# Altium integrated library Res-SMD_V2.IntLib: 2369 symbols (part 7 of 18)
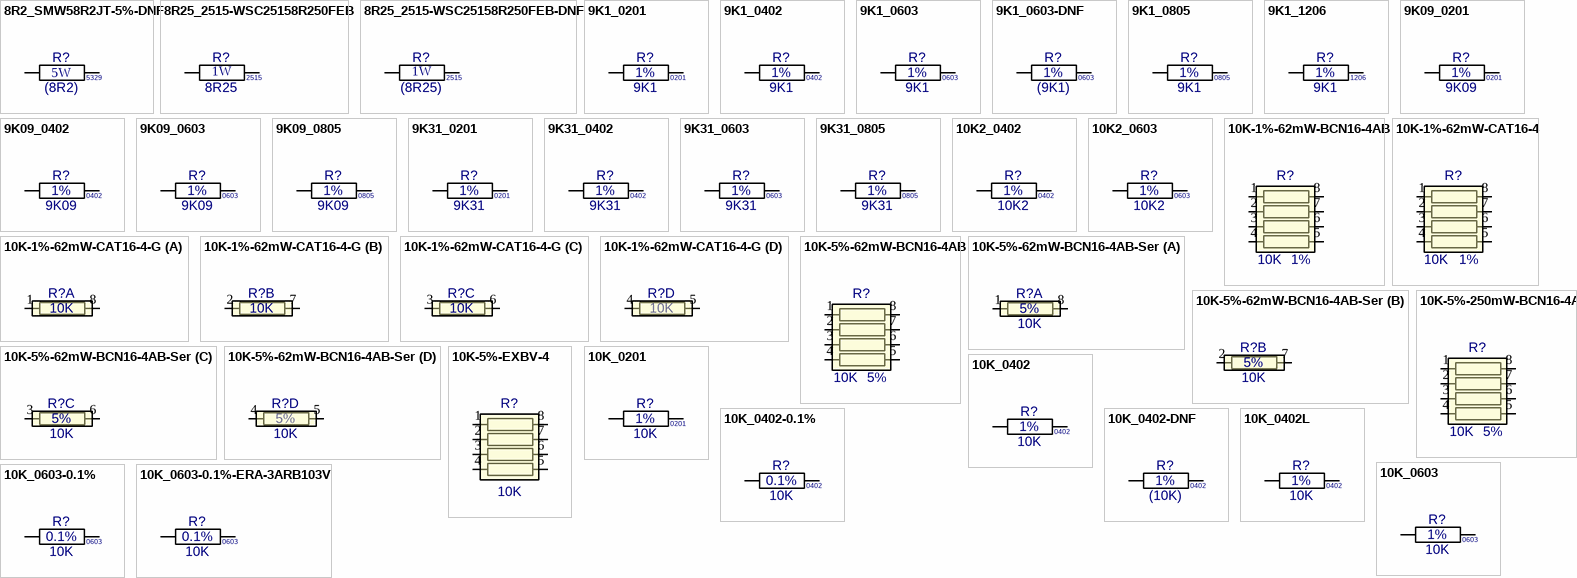
[diagram p65: symbols 8R2_SMW58R2JT-5%-DNF to 10K_0603-0.1%-ERA-3ARB103V]

## 8R25_2515-WSC25158R250FEB
designator R?, comment value 8R25  Watt: 1W  Text1: 2515  (hidden comment: WSC25158R250FEB)
Resistor Wirewound Precision Power; Manufacturer: Vishay; Tol: 1%; Part Number: WSC25158R250FEB; Package: WSC2515; EDM-PN: *; Text2: *; Reutech PN: *; SAAB PN: *; DCE Part No: *
footprint WSC2515 (Chip Resistor 2515 6.3x3.8mm)
pins: 1, 2

## 8R25_2515-WSC25158R250FEB-DNF
designator R?, comment value (8R25)  Watt: 1W  Text1: 2515  (hidden comment: WSC25158R250FEB)
Resistor Wirewound Precision Power - Do not Fit; Manufacturer: Vishay; Part Number: DNF - WSC25158R250FEB; Tol: 1%; Package: WSC2515; EDM-PN: *; Text2: *; Reutech PN: *; SAAB PN: *; DCE Part No: *
footprint WSC2515 (Chip Resistor 2515 6.3x3.8mm)
pins: 1, 2

## 9K1_0201
designator R?, comment value 9K1  Tol: 1%  Text1: 0201  (hidden comment: 9K1_R0201_1%)
Resistor Chip SMD; Manufacturer: Various; Part Number: 9K1 0201 1%; Watt: 31mW; Package: RESC0201X33N; EDM-PN: *; Text2: *; Reutech PN: *; SAAB PN: *; DCE Part No: *
footprint RESC0201X33N (Chip Resistor, 0201, 2-Leads, Body 0.6x0.3mm, IPC Medium Density)
pins: 1, 2

## 9K1_0402
designator R?, comment value 9K1  Tol: 1%  Text1: 0402  (hidden comment: 9K1_R0402_1%)
Resistor Chip SMD; Manufacturer: Various; Part Number: 9K1 0402 1%; Watt: 63mW; Package: RESC0402X40N; EDM-PN: *; Text2: *; Reutech PN: *; SAAB PN: *; DCE Part No: *
footprint RESC0402X40N (Chip Resistor, 0402, 2-Leads, Body 1.1x0.5mm, IPC Medium Density)
pins: 1, 2

## 9K1_0603
designator R?, comment value 9K1  Tol: 1%  Text1: 0603  (hidden comment: 9K1_R0603_1%)
Resistor Chip SMD; Manufacturer: Various; Part Number: 9K1 0603 1%; Watt: 100mW; EDM-PN: RES706; Package: RESC0603X60N; Text2: *; Reutech PN: 5905-93-9101; SAAB PN: *; DCE Part No: *
footprint RESC0603X60N (Chip Resistor, 0603, 2-Leads, Body 1.6x0.8mm, IPC Medium Density)
pins: 1, 2

## 9K1_0603-DNF
designator R?, comment value (9K1)  Tol: 1%  Text1: 0603  (hidden comment: 9K1_R0603_1%-DNF)
Resistor Chip SMD - Do not Fit; Manufacturer: Various; Part Number: DNF - 9K1 0603 1%; Watt: 100mW; Package: RESC0603X60N; EDM-PN: *; Text2: *; Reutech PN: *; SAAB PN: *; DCE Part No: *
footprint RESC0603X60N (Chip Resistor, 0603, 2-Leads, Body 1.6x0.8mm, IPC Medium Density)
pins: 1, 2

## 9K1_0805
designator R?, comment value 9K1  Tol: 1%  Text1: 0805  (hidden comment: 9K1_R0805_1%)
Resistor Chip SMD; Manufacturer: Various; Part Number: 9K1 0805 1%; Watt: 125mW; Package: RESC0805X65N; EDM-PN: *; Text2: *; Reutech PN: *; SAAB PN: *; DCE Part No: *
footprint RESC0805X65N (Chip Resistor, 0805, 2-Leads, Body 2.0x1.3mm, IPC Medium Density)
pins: 1, 2

## 9K1_1206
designator R?, comment value 9K1  Tol: 1%  Text1: 1206  (hidden comment: 9K!_R1206_1%)
Resistor Chip SMD; Manufacturer: Various; Part Number: 9K1 1206 1%; Watt: 250mW; Package: RESC1206X71N; EDM-PN: *; Text2: *; Reutech PN: 5905-97-9101; SAAB PN: *; DCE Part No: *
footprint RESC1206X71N (Chip Resistor, 1206, 2-Leads, Body 3.2x1.6mm, IPC Medium Density)
pins: 1, 2

## 9K09_0201
designator R?, comment value 9K09  Tol: 1%  Text1: 0201  (hidden comment: 9K09_R0201_1%)
Resistor Chip SMD; Manufacturer: Various; Part Number: 9K09 0201 1%; Watt: 31mW; Package: RESC0201X33N; EDM-PN: *; Text2: *; Reutech PN: *; SAAB PN: *; DCE Part No: *
footprint RESC0201X33N (Chip Resistor, 0201, 2-Leads, Body 0.6x0.3mm, IPC Medium Density)
pins: 1, 2

## 9K09_0402
designator R?, comment value 9K09  Tol: 1%  Text1: 0402  (hidden comment: 9K09_R0402_1%)
Resistor Chip SMD; Manufacturer: Various; Part Number: 9K09 0402 1%; Watt: 63mW; Package: RESC0402X40N; EDM-PN: *; Text2: *; Reutech PN: *; SAAB PN: *; DCE Part No: *
footprint RESC0402X40N (Chip Resistor, 0402, 2-Leads, Body 1.1x0.5mm, IPC Medium Density)
pins: 1, 2

## 9K09_0603
designator R?, comment value 9K09  Tol: 1%  Text1: 0603  (hidden comment: 9K09_R0603_1%)
Resistor Chip SMD; Manufacturer: Various; Part Number: 9K09 0603 1%; Watt: 100mW; Package: RESC0603X60N; EDM-PN: *; Text2: *; Reutech PN: *; SAAB PN: *; DCE Part No: *
footprint RESC0603X60N (Chip Resistor, 0603, 2-Leads, Body 1.6x0.8mm, IPC Medium Density)
pins: 1, 2

## 9K09_0805
designator R?, comment value 9K09  Tol: 1%  Text1: 0805  (hidden comment: 9K09_R0805_1%)
Resistor Chip SMD; Manufacturer: Various; Part Number: 9K09 0805 1%; Watt: 125mW; Package: RESC0805X65N; EDM-PN: *; Text2: *; Reutech PN: *; SAAB PN: *; DCE Part No: *
footprint RESC0805X65N (Chip Resistor, 0805, 2-Leads, Body 2.0x1.3mm, IPC Medium Density)
pins: 1, 2

## 9K31_0201
designator R?, comment value 9K31  Tol: 1%  Text1: 0201  (hidden comment: 9K31_R0201_1%)
Resistor Chip SMD; Manufacturer: Various; Part Number: 9K31 0201 1%; Watt: 31mW; Package: RESC0201X33N; EDM-PN: *; Text2: *; Reutech PN: *; SAAB PN: *; DCE Part No: *
footprint RESC0201X33N (Chip Resistor, 0201, 2-Leads, Body 0.6x0.3mm, IPC Medium Density)
pins: 1, 2

## 9K31_0402
designator R?, comment value 9K31  Tol: 1%  Text1: 0402  (hidden comment: 9K31_R0402_1%)
Resistor Chip SMD; Manufacturer: Various; Part Number: 9K31 0402 1%; Watt: 63mW; Package: RESC0402X40N; EDM-PN: *; Text2: *; Reutech PN: *; SAAB PN: *; DCE Part No: *
footprint RESC0402X40N (Chip Resistor, 0402, 2-Leads, Body 1.1x0.5mm, IPC Medium Density)
pins: 1, 2

## 9K31_0603
designator R?, comment value 9K31  Tol: 1%  Text1: 0603  (hidden comment: 9K31_R0603_1%)
Resistor Chip SMD; Manufacturer: Various; Part Number: 9K31 0603 1%; Watt: 100mW; Package: RESC0603X60N; EDM-PN: *; Text2: *; Reutech PN: *; SAAB PN: *; DCE Part No: *
footprint RESC0603X60N (Chip Resistor, 0603, 2-Leads, Body 1.6x0.8mm, IPC Medium Density)
pins: 1, 2

## 9K31_0805
designator R?, comment value 9K31  Tol: 1%  Text1: 0805  (hidden comment: 9K31_R0805_1%)
Resistor Chip SMD; Manufacturer: Various; Part Number: 9K31 0805 1%; Watt: 125mW; Package: RESC0805X65N; EDM-PN: *; Text2: *; Reutech PN: *; SAAB PN: *; DCE Part No: *
footprint RESC0805X65N (Chip Resistor, 0805, 2-Leads, Body 2.0x1.3mm, IPC Medium Density)
pins: 1, 2

## 10K2_0402
designator R?, comment value 10K2  Tol: 1%  Text1: 0402  (hidden comment: 10K2_R0402_1%)
Resistor Chip SMD; Manufacturer: Various; Part Number: 10K2 0402 1%; Watt: 63mW; Package: RESC0402X40N; EDM-PN: *; Text2: *; Reutech PN: *; SAAB PN: *; DCE Part No: *
footprint RESC0402X40N (Chip Resistor, 0402, 2-Leads, Body 1.1x0.5mm, IPC Medium Density)
pins: 1, 2

## 10K2_0603
designator R?, comment value 10K2  Tol: 1%  Text1: 0603  (hidden comment: 10K2_R0603_1%)
Resistor Chip SMD; Manufacturer: Various; Part Number: 10K2 0603 1%; Watt: 100mW; EDM-PN: RES1017; Package: RESC0603X60N; Text2: *; Reutech PN: *; SAAB PN: *; DCE Part No: *
footprint RESC0603X60N (Chip Resistor, 0603, 2-Leads, Body 1.6x0.8mm, IPC Medium Density)
pins: 1, 2

## 10K-1%-62mW-BCN16-4AB
designator R?, comment value 10K  Tol: 1%  (hidden comment: 10K-1%-62mW-BCN16-4AB-H)
Resistor Chip Array; Manufacturer: Bi Tech; Part Number: BCN164ABI-103F; Watt: 62mW; Package: BCN16-4AB; EDM-PN: *; Text2: *; Text1: *; Reutech PN: *; SAAB PN: *; DCE Part No: *
footprint BCN16-4AB (BCN 16 4 AB 1.6x3.2mm)
pins: 1, 2, 3, 4, 5, 6, 7, 8

## 10K-1%-62mW-CAT16-4
designator R?  value 10K  Tol: 1%  (hidden comment: 10K-1%-62mW-CAT16-4)
Resistor Chip Array; Manufacturer: Bourns; Part Number: CAT16-103J4LF; EDM-PN: RES1475; Watt: 62mW; Package: CAT16-4; Text2: *; Text1: *; Reutech PN: *; SAAB PN: *; DCE Part No: *
footprint CAT16-4 (Res Network 1.6x3.2mm)
pins: 1, 2, 3, 4, 5, 6, 7, 8

## 10K-1%-62mW-CAT16-4-G
designator R?, comment value 10K  (hidden comment: 10K-1%-62mW-CAT16-4)
Resistor Chip Array; Manufacturer: Bourns; Part Number: CAT16-103J4LF; EDM-PN: RES1475; Watt: 62mW; Tol: 1%; Package: CAT16-4; Text2: *; Text1: *; Reutech PN: *; SAAB PN: *; DCE Part No: *
footprint CAT16-4 (Res Network 1.6x3.2mm)
part A pins: 1, 8
part B pins: 2, 7
part C pins: 3, 6
part D pins: 4, 5

## 10K-5%-62mW-BCN16-4AB
designator R?, comment value 10K  Tol: 5%  (hidden comment: 10K-5%-62mW-BCN16-4AB-H)
Resistor Chip Array; Manufacturer: Bi Tech; Part Number: BCN164ABI-103J; Watt: 62mW; Package: BCN16-4AB; EDM-PN: *; Text2: *; Text1: *; Reutech PN: *; SAAB PN: *; DCE Part No: *
footprint BCN16-4AB (BCN 16 4 AB 1.6x3.2mm)
pins: 1, 2, 3, 4, 5, 6, 7, 8

## 10K-5%-62mW-BCN16-4AB-Ser
designator R?, comment value 10K  Tol: 5%  (hidden comment: 10K-5%-62mW-BCN16-4AB-H)
Resistor Chip Array; Manufacturer: Bi Tech; Part Number: BCN164ABI-103J; Watt: 62mW; Package: BCN16-4AB; EDM-PN: *; Text2: *; Text1: *; Reutech PN: *; SAAB PN: *; DCE Part No: *
footprint BCN16-4AB (BCN 16 4 AB 1.6x3.2mm)
part A pins: 1, 8
part B pins: 2, 7
part C pins: 3, 6
part D pins: 4, 5

## 10K-5%-250mW-BCN16-4A
designator R?, comment value 10K  Tol: 5%  (hidden comment: BCN164A103J7)
Resistor Chip Array; Manufacturer: Bi Tech; Watt: 250mW; Part Number: BCN164A103J7; Package: BCN16-4A; EDM-PN: *; Text2: *; Text1: *; Reutech PN: *; SAAB PN: *; DCE Part No: *
footprint BCN16-4A (Res Network 1.6x3.2mm)
pins: 1, 2, 3, 4, 5, 6, 7, 8

## 10K-5%-EXBV-4
designator R?  value 10K  (hidden comment: 10K-5%-EXBV-4)
Resistor Chip Array; Manufacturer: Panasonic; Part Number: EXBV8V103J; Tol: 5%; Package: EXBV8V; EDM-PN: *; Text2: *; Text1: *; Watt: *; Reutech PN: *; SAAB PN: *; DCE Part No: *
footprint EXBV8V (Res Network 1.6x3.2mm)
pins: 1, 2, 3, 4, 5, 6, 7, 8

## 10K_0201
designator R?, comment value 10K  Tol: 1%  Text1: 0201  (hidden comment: 10K_R0201_1%)
Resistor Chip SMD; Manufacturer: Various; Part Number: 10K 0201 1%; Watt: 31mW; Package: RESC0201X33N; EDM-PN: *; Text2: *; Reutech PN: *; SAAB PN: *; DCE Part No: *
footprint RESC0201X33N (Chip Resistor, 0201, 2-Leads, Body 0.6x0.3mm, IPC Medium Density)
pins: 1, 2

## 10K_0402
designator R?, comment value 10K  Tol: 1%  Text1: 0402  (hidden comment: 10K_R0402_1%)
Resistor Chip SMD; Manufacturer: Various; Part Number: 10K 0402 1%; DCE Part No: 7144; Watt: 63mW; EDM-PN: RES857; SAAB PN: 1ACF00357AEA; Package: RESC0402X40N; Text2: *; Reutech PN: 5905-92-1002
footprint RESC0402X40N (Chip Resistor, 0402, 2-Leads, Body 1.1x0.5mm, IPC Medium Density)
pins: 1, 2

## 10K_0402-0.1%
designator R?, comment value 10K  Tol: 0.1%  Text1: 0402  (hidden comment: 10K_R0402_0.1%)
Resistor Chip SMD; Manufacturer: Various; Part Number: 10K 0402 0.1%; Watt: 63mW; Package: RESC0402X40N; EDM-PN: *; Text2: *; Reutech PN: *; SAAB PN: *; DCE Part No: *
footprint RESC0402X40N (Chip Resistor, 0402, 2-Leads, Body 1.1x0.5mm, IPC Medium Density)
pins: 1, 2

## 10K_0402-DNF
designator R?, comment value (10K)  Tol: 1%  Text1: 0402  (hidden comment: 10K_R0402_1%-DNF)
Resistor Chip SMD - Do not Fit; Manufacturer: Various; Part Number: DNF - 10K 0402 1%; Watt: 63mW; Package: RESC0402X40N; EDM-PN: *; Text2: *; Reutech PN: *; SAAB PN: *; DCE Part No: *
footprint RESC0402X40N (Chip Resistor, 0402, 2-Leads, Body 1.1x0.5mm, IPC Medium Density)
pins: 1, 2

## 10K_0402L
designator R?, comment value 10K  Tol: 1%  Text1: 0402  (hidden comment: 10K_R0402_1%)
Resistor Chip SMD; Manufacturer: Various; Part Number: 10K 0402 1%; DCE Part No: 7144; Watt: 63mW; EDM-PN: RES857; SAAB PN: 1ACF00357AEA; Package: RESC0402X40L; Text2: *; Reutech PN: 5905-92-1002
footprint RESC0402X40L (Chip Resistor, 0402, 2-Leads, Body 1.1x0.5mm, IPC High Density)
pins: 1, 2

## 10K_0603
designator R?, comment value 10K  Tol: 1%  Text1: 0603  (hidden comment: 10K_R0603_1%)
Resistor Chip SMD; Manufacturer: Various; Part Number: 10K 0603 1%; Watt: 100mW; EDM-PN: RES120; Package: RESC0603X60N; Text2: *; Reutech PN: 5905-93-1002; SAAB PN: *; DCE Part No: *
footprint RESC0603X60N (Chip Resistor, 0603, 2-Leads, Body 1.6x0.8mm, IPC Medium Density)
pins: 1, 2

## 10K_0603-0.1%
designator R?, comment value 10K  Tol: 0.1%  Text1: 0603  (hidden comment: 10K_R0603_0.1%)
Resistor Chip SMD; Manufacturer: Various; Part Number: 10K 0603 0.1%; Watt: 100mW; Package: RESC0603X60N; EDM-PN: *; Text2: *; Reutech PN: *; SAAB PN: *; DCE Part No: *
footprint RESC0603X60N (Chip Resistor, 0603, 2-Leads, Body 1.6x0.8mm, IPC Medium Density)
pins: 1, 2

## 10K_0603-0.1%-ERA-3ARB103V
designator R?, comment value 10K  Tol: 0.1%  Text1: 0603  (hidden comment: ERA-3ARB103V)
Resistor Chip SMD; Manufacturer: Panasonic; Watt: 100mW; Part Number: ERA-3ARB103V; Package: RESC0603X60N; EDM-PN: *; Text2: *; Reutech PN: *; SAAB PN: *; DCE Part No: *
footprint RESC0603X60N (Chip Resistor, 0603, 2-Leads, Body 1.6x0.8mm, IPC Medium Density)
pins: 1, 2

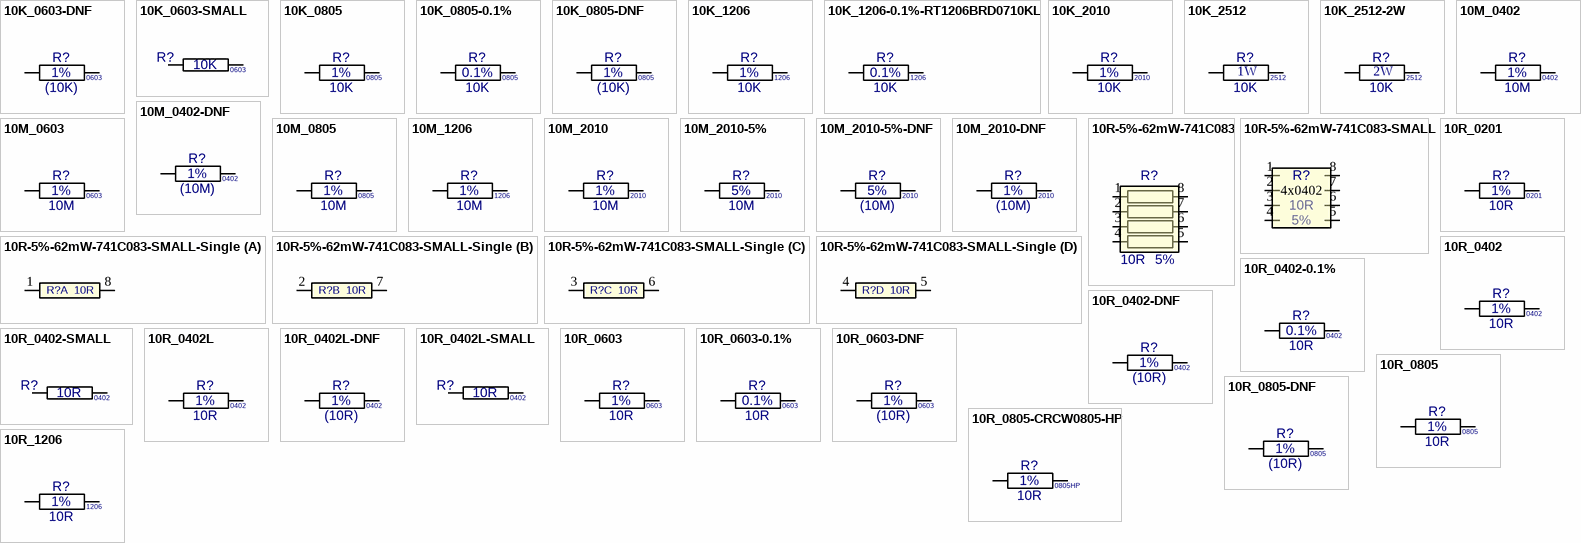
[diagram p21: symbols 10K_0603-DNF to 10R_1206]

## 10K_0603-DNF
designator R?, comment value (10K)  Tol: 1%  Text1: 0603  (hidden comment: 10K_R0603_1%-DNF)
Resistor Chip SMD - Do not Fit; Manufacturer: Various; Part Number: DNF - 10K 0603 1%; Watt: 100mW; EDM-PN: RES120; Package: RESC0603X60N; Text2: *; Reutech PN: 5905-93-1002; SAAB PN: *; DCE Part No: *
footprint RESC0603X60N (Chip Resistor, 0603, 2-Leads, Body 1.6x0.8mm, IPC Medium Density)
pins: 1, 2

## 10K_0603-SMALL
designator R?, comment value 10K  Text1: 0603  (hidden comment: 10K_R0603_1%)
Resistor Chip SMD; Manufacturer: Various; Part Number: 10K 0603 1%; Watt: 100mW; EDM-PN: RES181; Tol: 1%; Package: RESC0603X60N; Text2: *; Reutech PN: *; SAAB PN: *; DCE Part No: *
footprint RESC0603X60N (Chip Resistor, 0603, 2-Leads, Body 1.6x0.8mm, IPC Medium Density)
pins: 1, 2

## 10K_0805
designator R?, comment value 10K  Tol: 1%  Text1: 0805  (hidden comment: 10K_R0805_1%)
Resistor Chip SMD; Manufacturer: Various; Part Number: 10K 0805 1%; Watt: 125mW; EDM-PN: RES8; SAAB PN: 1ACF00200AEA; Package: RESC0805X65N; Text2: *; Reutech PN: *; DCE Part No: *
footprint RESC0805X65N (Chip Resistor, 0805, 2-Leads, Body 2.0x1.3mm, IPC Medium Density)
pins: 1, 2

## 10K_0805-0.1%
designator R?, comment value 10K  Tol: 0.1%  Text1: 0805  (hidden comment: 10K_R0805_0.1%)
Resistor Chip SMD; Manufacturer: Various; Part Number: 10K 0805 0.1%; Watt: 125mW; Package: RESC0805X65N; EDM-PN: *; Text2: *; Reutech PN: *; SAAB PN: *; DCE Part No: *
footprint RESC0805X65N (Chip Resistor, 0805, 2-Leads, Body 2.0x1.3mm, IPC Medium Density)
pins: 1, 2

## 10K_0805-DNF
designator R?, comment value (10K)  Tol: 1%  Text1: 0805  (hidden comment: 10K_R0805_1%-DNF)
Resistor Chip SMD - Do not Fit; Manufacturer: Various; Part Number: DNF - 10K 0805 1%; Watt: 125mW; EDM-PN: RES8; SAAB PN: 1ACF00200AEA; Package: RESC0805X65N; Text2: *; Reutech PN: *; DCE Part No: *
footprint RESC0805X65N (Chip Resistor, 0805, 2-Leads, Body 2.0x1.3mm, IPC Medium Density)
pins: 1, 2

## 10K_1206
designator R?, comment value 10K  Tol: 1%  Text1: 1206  (hidden comment: 10K_R1206_1%)
Resistor Chip SMD; Manufacturer: Various; Part Number: 10K 1206 1%; Watt: 250mW; EDM-PN: RES2; Package: RESC1206X71N; Text2: *; Reutech PN: 5905-97-1002; SAAB PN: *; DCE Part No: *
footprint RESC1206X71N (Chip Resistor, 1206, 2-Leads, Body 3.2x1.6mm, IPC Medium Density)
pins: 1, 2

## 10K_1206-0.1%-RT1206BRD0710KL
designator R?, comment value 10K  Tol: 0.1%  Text1: 1206  (hidden comment: RT1206BRD0710KL)
Resistor Chip SMD; Manufacturer: Yageo; Watt: 250mW; Part Number: RT1206BRD0710KL; Package: RESC1206X71N; EDM-PN: *; Text2: *; Reutech PN: *; SAAB PN: *; DCE Part No: *
footprint RESC1206X71N (Chip Resistor, 1206, 2-Leads, Body 3.2x1.6mm, IPC Medium Density)
pins: 1, 2

## 10K_2010
designator R?, comment value 10K  Tol: 1%  Text1: 2010  (hidden comment: 10K_R2010_1%)
Resistor Chip SMD; Manufacturer: Various; Part Number: 10K 2010 1%; Watt: 500mW; Package: RESC2010X71N; EDM-PN: *; Text2: *; Reutech PN: *; SAAB PN: *; DCE Part No: *
footprint RESC2010X71N (Chip Resistor, 2010, 2-Leads, Body 5.0x2.5mm, IPC Medium Density)
pins: 1, 2

## 10K_2512
designator R?, comment value 10K  Watt: 1W  Text1: 2512  (hidden comment: 10K_R2512)
Resistor Thick Film; Manufacturer: Various; Part Number: 10K 2512 1%; Tol: 1%; Package: RESC2512X71N; EDM-PN: *; Text2: *; Reutech PN: *; SAAB PN: *; DCE Part No: *
footprint RESC2512X71N (Chip Resistor, 2512, 2-Leads, Body 6.3x3.2mm, IPC Medium Density)
pins: 1, 2

## 10K_2512-2W
designator R?, comment value 10K  Watt: 2W  Text1: 2512  (hidden comment: 10K_R2512)
Resistor Thick Film; Manufacturer: Bourns; Part Number: CRS2512-FX-1002ELF; Tol: 1%; Package: RESC2512X71N; EDM-PN: *; Text2: *; Reutech PN: *; SAAB PN: *; DCE Part No: *
footprint RESC2512X71N (Chip Resistor, 2512, 2-Leads, Body 6.3x3.2mm, IPC Medium Density)
pins: 1, 2

## 10M_0402
designator R?, comment value 10M  Tol: 1%  Text1: 0402  (hidden comment: 10M_R0402_1%)
Resistor Chip SMD; Manufacturer: Various; Part Number: 10M 0402 1%; Watt: 63mW; Package: RESC0402X40N; EDM-PN: *; Text2: *; Reutech PN: *; SAAB PN: *; DCE Part No: *
footprint RESC0402X40N (Chip Resistor, 0402, 2-Leads, Body 1.1x0.5mm, IPC Medium Density)
pins: 1, 2

## 10M_0402-DNF
designator R?, comment value (10M)  Tol: 1%  Text1: 0402  (hidden comment: 10M_R0402_1%)
Resistor Chip SMD - Do not Fit; Manufacturer: Various; Part Number: DNF - 10M 0402 1%; Watt: 63mW; Package: RESC0402X40N; EDM-PN: *; Text2: *; Reutech PN: *; SAAB PN: *; DCE Part No: *
footprint RESC0402X40N (Chip Resistor, 0402, 2-Leads, Body 1.1x0.5mm, IPC Medium Density)
pins: 1, 2

## 10M_0603
designator R?, comment value 10M  Tol: 1%  Text1: 0603  (hidden comment: 10M_R0603_1%)
Resistor Chip SMD; Manufacturer: Various; Part Number: 10M 0603 1%; Watt: 100mW; EDM-PN: RES594; Package: RESC0603X60N; Text2: *; Reutech PN: *; SAAB PN: *; DCE Part No: *
footprint RESC0603X60N (Chip Resistor, 0603, 2-Leads, Body 1.6x0.8mm, IPC Medium Density)
pins: 1, 2

## 10M_0805
designator R?, comment value 10M  Tol: 1%  Text1: 0805  (hidden comment: 10M_R0805_1%)
Resistor Chip SMD; Manufacturer: Various; Part Number: 10M 0805 1%; Watt: 125mW; Package: RESC0805X65N; EDM-PN: *; Text2: *; Reutech PN: *; SAAB PN: *; DCE Part No: *
footprint RESC0805X65N (Chip Resistor, 0805, 2-Leads, Body 2.0x1.3mm, IPC Medium Density)
pins: 1, 2

## 10M_1206
designator R?, comment value 10M  Tol: 1%  Text1: 1206  (hidden comment: 10M_R1206_1%)
Resistor Chip SMD; Manufacturer: Various; Part Number: 10M 1206 1%; Watt: 250mW; Package: RESC1206X71N; EDM-PN: *; Text2: *; Reutech PN: *; SAAB PN: *; DCE Part No: *
footprint RESC1206X71N (Chip Resistor, 1206, 2-Leads, Body 3.2x1.6mm, IPC Medium Density)
pins: 1, 2

## 10M_2010
designator R?, comment value 10M  Tol: 1%  Text1: 2010  (hidden comment: 10M_R2010_1%)
Resistor Chip SMD; Manufacturer: Various; Part Number: 10M 2010 1%; Watt: 500mW; Package: RESC2010X71N; EDM-PN: *; Text2: *; Reutech PN: *; SAAB PN: *; DCE Part No: *
footprint RESC2010X71N (Chip Resistor, 2010, 2-Leads, Body 5.0x2.5mm, IPC Medium Density)
pins: 1, 2

## 10M_2010-5%
designator R?, comment value 10M  Tol: 5%  Text1: 2010  (hidden comment: 10M_R2010_5%)
Resistor Chip SMD; Manufacturer: Various; Part Number: 10M 2010 5%; Watt: 500mW; Package: RESC2010X71N; EDM-PN: *; Text2: *; Reutech PN: *; SAAB PN: *; DCE Part No: *
footprint RESC2010X71N (Chip Resistor, 2010, 2-Leads, Body 5.0x2.5mm, IPC Medium Density)
pins: 1, 2

## 10M_2010-5%-DNF
designator R?, comment value (10M)  Tol: 5%  Text1: 2010  (hidden comment: 10M_R2010_5%)
Resistor Chip SMD - Do not Fit; Manufacturer: Various; Part Number: DNF - 10M 2010 5%; Watt: 500mW; Package: RESC2010X71N; EDM-PN: *; Text2: *; Reutech PN: *; SAAB PN: *; DCE Part No: *
footprint RESC2010X71N (Chip Resistor, 2010, 2-Leads, Body 5.0x2.5mm, IPC Medium Density)
pins: 1, 2

## 10M_2010-DNF
designator R?, comment value (10M)  Tol: 1%  Text1: 2010  (hidden comment: 10M_R2010_1%)
Resistor Chip SMD - Do not Fit; Manufacturer: Various; Part Number: DNF - 10M 2010 1%; Watt: 500mW; Package: RESC2010X71N; EDM-PN: *; Text2: *; Reutech PN: *; SAAB PN: *; DCE Part No: *
footprint RESC2010X71N (Chip Resistor, 2010, 2-Leads, Body 5.0x2.5mm, IPC Medium Density)
pins: 1, 2

## 10R-5%-62mW-741C083
designator R?, comment value 10R  Tol: 5%  (hidden comment: 10R-5%-62mW-741C083-H)
Resistor Chip Array; Manufacturer: CTS; Part Number: 741C083100JP; Watt: 62mW; Package: 741C083; EDM-PN: *; Text2: *; Text1: *; Reutech PN: *; SAAB PN: *; DCE Part No: *
footprint 741C083 (741C083 1.0x2.0mm)
pins: 1, 2, 3, 4, 5, 6, 7, 8

## 10R-5%-62mW-741C083-SMALL
designator R?, comment value 10R  Tol: 5%  (hidden comment: 10R-5%-62mW-741C083-H-SMALL)
Resistor Chip Array; Manufacturer: CTS; Part Number: 741C083100JP; Watt: 62mW; Package: 741C083; EDM-PN: *; Text2: *; Text1: *; Reutech PN: *; SAAB PN: *; DCE Part No: *
footprint 741C083 (741C083 1.0x2.0mm)
pins: 1, 2, 3, 4, 5, 6, 7, 8
text: 4x0402

## 10R-5%-62mW-741C083-SMALL-Single
designator R?, comment value 10R  (hidden comment: 10R-5%-62mW-741C083-H-SMALL-Single)
Resistor Chip Array; Manufacturer: CTS; Part Number: 741C083100JP; Watt: 62mW; Tol: 5%; Package: 741C083; EDM-PN: *; Text2: *; Text1: *; Reutech PN: *; SAAB PN: *; DCE Part No: *
footprint 741C083 (741C083 1.0x2.0mm)
part A pins: 1, 8
part B pins: 2, 7
part C pins: 3, 6
part D pins: 4, 5

## 10R_0201
designator R?, comment value 10R  Tol: 1%  Text1: 0201  (hidden comment: 10R_R0201_1%)
Resistor Chip SMD; Manufacturer: Various; Part Number: 10R 0201 1%; Watt: 31mW; Package: RESC0201X33N; EDM-PN: *; Text2: *; Reutech PN: *; SAAB PN: *; DCE Part No: *
footprint RESC0201X33N (Chip Resistor, 0201, 2-Leads, Body 0.6x0.3mm, IPC Medium Density)
pins: 1, 2

## 10R_0402
designator R?, comment value 10R  Tol: 1%  Text1: 0402  (hidden comment: 10R_R0402_1%)
Resistor Chip SMD; Manufacturer: Various; Part Number: 10R 0402 1%; DCE Part No: 7145; Watt: 63mW; Package: RESC0402X40N; EDM-PN: *; Text2: *; Reutech PN: *; SAAB PN: *
footprint RESC0402X40N (Chip Resistor, 0402, 2-Leads, Body 1.1x0.5mm, IPC Medium Density)
pins: 1, 2

## 10R_0402-0.1%
designator R?, comment value 10R  Tol: 0.1%  Text1: 0402  (hidden comment: 10R_R0402_0.1%)
Resistor Chip SMD; Manufacturer: Various; Part Number: 10R 0402 0.1%; Watt: 63mW; Package: RESC0402X40N; EDM-PN: *; Text2: *; Reutech PN: *; SAAB PN: *; DCE Part No: *
footprint RESC0402X40N (Chip Resistor, 0402, 2-Leads, Body 1.1x0.5mm, IPC Medium Density)
pins: 1, 2

## 10R_0402-DNF
designator R?, comment value (10R)  Tol: 1%  Text1: 0402  (hidden comment: 10R_R0402_1%)
Resistor Chip SMD - Do not Fit; Manufacturer: Various; Part Number: DNF - 10R 0402 1%; Watt: 63mW; Package: RESC0402X40N; EDM-PN: *; Text2: *; Reutech PN: *; SAAB PN: *; DCE Part No: *
footprint RESC0402X40N (Chip Resistor, 0402, 2-Leads, Body 1.1x0.5mm, IPC Medium Density)
pins: 1, 2

## 10R_0402-SMALL
designator R?, comment value 10R  Text1: 0402  (hidden comment: 10R_R0402_1%)
Resistor Chip SMD; Manufacturer: Various; Part Number: 10R 0402 1%; DCE Part No: 7145; Watt: 63mW; Tol: 1%; Package: RESC0402X40N; EDM-PN: *; Text2: *; Reutech PN: *; SAAB PN: *
footprint RESC0402X40N (Chip Resistor, 0402, 2-Leads, Body 1.1x0.5mm, IPC Medium Density)
pins: 1, 2

## 10R_0402L
designator R?, comment value 10R  Tol: 1%  Text1: 0402  (hidden comment: 10R_R0402_1%)
Resistor Chip SMD; Manufacturer: Various; Part Number: 10R 0402 1%; DCE Part No: 7145; Watt: 63mW; Package: RESC0402X40L; EDM-PN: *; Text2: *; Reutech PN: *; SAAB PN: *
footprint RESC0402X40L (Chip Resistor, 0402, 2-Leads, Body 1.1x0.5mm, IPC High Density)
pins: 1, 2

## 10R_0402L-DNF
designator R?, comment value (10R)  Tol: 1%  Text1: 0402  (hidden comment: 10R_R0402_1%)
Resistor Chip SMD - Do not Fit; Manufacturer: Various; Part Number: DNF - 10R 0402 1%; Watt: 63mW; Package: RESC0402X40L; EDM-PN: *; Text2: *; Reutech PN: *; SAAB PN: *; DCE Part No: *
footprint RESC0402X40L (Chip Resistor, 0402, 2-Leads, Body 1.1x0.5mm, IPC High Density)
pins: 1, 2

## 10R_0402L-SMALL
designator R?, comment value 10R  Text1: 0402  (hidden comment: 10R_R0402_1%)
Resistor Chip SMD; Manufacturer: Various; Part Number: 10R 0402 1%; DCE Part No: 7145; Watt: 63mW; Tol: 1%; Package: RESC0402X40L; EDM-PN: *; Text2: *; Reutech PN: *; SAAB PN: *
footprint RESC0402X40L (Chip Resistor, 0402, 2-Leads, Body 1.1x0.5mm, IPC High Density)
pins: 1, 2

## 10R_0603
designator R?, comment value 10R  Tol: 1%  Text1: 0603  (hidden comment: 10R_R0603_1%)
Resistor Chip SMD; Manufacturer: Various; Part Number: 10R 0603 1%; Watt: 100mW; EDM-PN: RES119; Package: RESC0603X60N; Text2: *; Reutech PN: 5905-93-0010; SAAB PN: *; DCE Part No: *
footprint RESC0603X60N (Chip Resistor, 0603, 2-Leads, Body 1.6x0.8mm, IPC Medium Density)
pins: 1, 2

## 10R_0603-0.1%
designator R?, comment value 10R  Tol: 0.1%  Text1: 0603  (hidden comment: 10R_R0603_0.1%)
Resistor Chip SMD; Manufacturer: Various; Part Number: 10R 0603 0.1%; Watt: 100mW; Package: RESC0603X60N; EDM-PN: *; Text2: *; Reutech PN: *; SAAB PN: *; DCE Part No: *
footprint RESC0603X60N (Chip Resistor, 0603, 2-Leads, Body 1.6x0.8mm, IPC Medium Density)
pins: 1, 2

## 10R_0603-DNF
designator R?, comment value (10R)  Tol: 1%  Text1: 0603  (hidden comment: 10R_R0603_1%)
Resistor Chip SMD - Do not Fit; Manufacturer: Various; Part Number: DNF - 10R 0603 1%; Watt: 100mW; Package: RESC0603X60N; EDM-PN: *; Text2: *; Reutech PN: 5905-93-0010; SAAB PN: *; DCE Part No: *
footprint RESC0603X60N (Chip Resistor, 0603, 2-Leads, Body 1.6x0.8mm, IPC Medium Density)
pins: 1, 2

## 10R_0805
designator R?, comment value 10R  Tol: 1%  Text1: 0805  (hidden comment: 10R_R0805_1%)
Resistor Chip SMD; Manufacturer: Various; Part Number: 10R 0805 1%; Watt: 125mW; EDM-PN: RES108; SAAB PN: 1ACF00165AEA; Package: RESC0805X65N; Text2: *; Reutech PN: *; DCE Part No: *
footprint RESC0805X65N (Chip Resistor, 0805, 2-Leads, Body 2.0x1.3mm, IPC Medium Density)
pins: 1, 2

## 10R_0805-CRCW0805-HP
designator R?, comment value 10R  Tol: 1%  Text1: 0805HP  (hidden comment: CRCW080510R0FKEAHP)
Resistor Pulse Withstanding Thick Film; Manufacturer: Vishay; Watt: 500mW; Part Number: CRCW080510R0FKEAHP; Package: CRCW0805-HP; EDM-PN: *; Text2: *; Reutech PN: *; SAAB PN: *; DCE Part No: *
footprint CRCW0805-HP (CRCW0805 HP 2.0x1.3mm, IPC Medium Density)
pins: 1, 2

## 10R_0805-DNF
designator R?, comment value (10R)  Tol: 1%  Text1: 0805  (hidden comment: 10R_R0805_1%)
Resistor Chip SMD - Do not Fit; Manufacturer: Various; Part Number: DNF - 10R 0805 1%; Watt: 125mW; EDM-PN: RES108; SAAB PN: 1ACF00165AEA; Package: RESC0805X65N; Text2: *; Reutech PN: *; DCE Part No: *
footprint RESC0805X65N (Chip Resistor, 0805, 2-Leads, Body 2.0x1.3mm, IPC Medium Density)
pins: 1, 2

## 10R_1206
designator R?, comment value 10R  Tol: 1%  Text1: 1206  (hidden comment: 10R_R1206_1%)
Resistor Chip SMD; Manufacturer: Various; Part Number: 10R 1206 1%; Watt: 250mW; EDM-PN: RES118; SAAB PN: 1ACF00003AEA; Package: RESC1206X71N; Text2: *; Reutech PN: 5905-97-0010; DCE Part No: *
footprint RESC1206X71N (Chip Resistor, 1206, 2-Leads, Body 3.2x1.6mm, IPC Medium Density)
pins: 1, 2

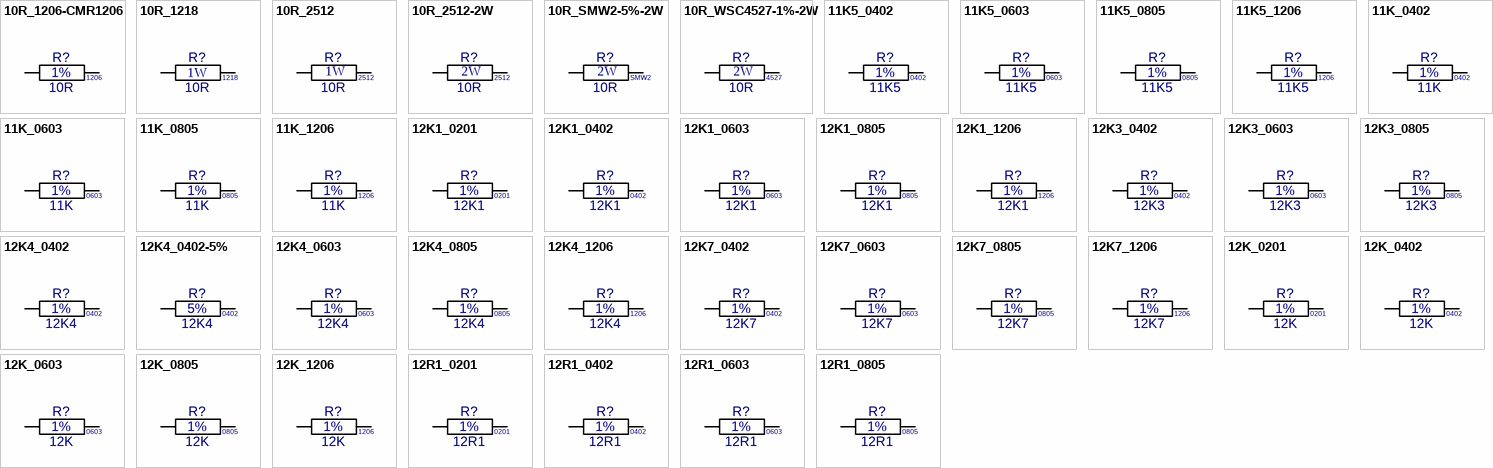
[diagram p22: symbols 10R_1206-CMR1206 to 12R1_0805]

## 10R_1206-CMR1206
designator R?, comment value 10R  Tol: 1%  Text1: 1206  (hidden comment: CRM1206-FX-10R0ELF)
Resistor Chip Thick Film High Power; Manufacturer: Bourns; Watt: 500mW; Part Number: CRM1206-FX-10R0ELF; Package: RESC1206X71N; EDM-PN: *; Text2: *; Reutech PN: *; SAAB PN: *; DCE Part No: *
footprint RESC1206X71N (Chip Resistor, 1206, 2-Leads, Body 3.2x1.6mm, IPC Medium Density)
pins: 1, 2

## 10R_1218
designator R?, comment value 10R  Watt: 1W  Text1: 1218  (hidden comment: 10R_R1218_1%)
Resistor Chip SMD; Manufacturer: Various; Part Number: 10R 1218 1%; Tol: 1%; Package: RESC1218N; EDM-PN: *; Text2: *; Reutech PN: *; SAAB PN: *; DCE Part No: *
footprint RESC1218N (Chip Resistor, 1218, 2-Leads, Body 3.2x4.6mm, IPC Medium Density)
pins: 1, 2

## 10R_2512
designator R?, comment value 10R  Watt: 1W  Text1: 2512  (hidden comment: 10R_R2512)
Resistor Thick Film; Manufacturer: Various; Part Number: 10R 2512 1%; Tol: 1%; Package: RESC2512X71N; EDM-PN: *; Text2: *; Reutech PN: *; SAAB PN: *; DCE Part No: *
footprint RESC2512X71N (Chip Resistor, 2512, 2-Leads, Body 6.3x3.2mm, IPC Medium Density)
pins: 1, 2

## 10R_2512-2W
designator R?, comment value 10R  Watt: 2W  Text1: 2512  (hidden comment: 10R_R2512)
Resistor Thick Film; Manufacturer: Bourns; Part Number: CRM2512-FX-10R0ELF; Tol: 1%; Package: RESC2512X71N; EDM-PN: *; Text2: *; Reutech PN: *; SAAB PN: *; DCE Part No: *
footprint RESC2512X71N (Chip Resistor, 2512, 2-Leads, Body 6.3x3.2mm, IPC Medium Density)
pins: 1, 2

## 10R_SMW2-5%-2W
designator R?, comment value 10R  Watt: 2W  Text1: SMW2  (hidden comment: SMW210RJT)
Resistor Moulded Power Wirewound; Manufacturer: TE Connectivity; Tol: 5%; Part Number: SMW210RJT; Package: RES-SM_2; EDM-PN: *; Text2: *; Reutech PN: *; SAAB PN: *; DCE Part No: *
footprint RES-SM_2 (RES-SM_2 6.7x4.0mm)
pins: 1, 2

## 10R_WSC4527-1%-2W
designator R?, comment value 10R  Watt: 2W  Text1: 4527  (hidden comment: WSC452710R00FEA)
Resistor Moulded Power Wirewound; Manufacturer: Vishay; Tol: 1%; Part Number: WSC452710R00FEA; Package: RES-WSC4527; EDM-PN: *; Text2: *; Reutech PN: *; SAAB PN: *; DCE Part No: *
footprint RES-WSC4527 (WSC4527 11.56x6.98mm)
pins: 1, 2

## 11K5_0402
designator R?, comment value 11K5  Tol: 1%  Text1: 0402  (hidden comment: 11K5_R0402_1%)
Resistor Chip SMD; Manufacturer: Various; Part Number: 11K5 0402 1%; Watt: 63mW; Package: RESC0402X40N; EDM-PN: *; Text2: *; Reutech PN: *; SAAB PN: *; DCE Part No: *
footprint RESC0402X40N (Chip Resistor, 0402, 2-Leads, Body 1.1x0.5mm, IPC Medium Density)
pins: 1, 2

## 11K5_0603
designator R?, comment value 11K5  Tol: 1%  Text1: 0603  (hidden comment: 11K5_R0603_1%)
Resistor Chip SMD; Manufacturer: Various; Part Number: 11K5 0603 1%; Watt: 100mW; Package: RESC0603X60N; EDM-PN: *; Text2: *; Reutech PN: *; SAAB PN: *; DCE Part No: *
footprint RESC0603X60N (Chip Resistor, 0603, 2-Leads, Body 1.6x0.8mm, IPC Medium Density)
pins: 1, 2

## 11K5_0805
designator R?, comment value 11K5  Tol: 1%  Text1: 0805  (hidden comment: 11K5_R0805_1%)
Resistor Chip SMD; Manufacturer: Various; Part Number: 11K5 0805 1%; Watt: 125mW; Package: RESC0805X65N; EDM-PN: *; Text2: *; Reutech PN: *; SAAB PN: *; DCE Part No: *
footprint RESC0805X65N (Chip Resistor, 0805, 2-Leads, Body 2.0x1.3mm, IPC Medium Density)
pins: 1, 2

## 11K5_1206
designator R?, comment value 11K5  Tol: 1%  Text1: 1206  (hidden comment: 11K5_R1206_1%)
Resistor Chip SMD; Manufacturer: Various; Part Number: 11K5 1206 1%; Watt: 250mW; Package: RESC1206X71N; EDM-PN: *; Text2: *; Reutech PN: *; SAAB PN: *; DCE Part No: *
footprint RESC1206X71N (Chip Resistor, 1206, 2-Leads, Body 3.2x1.6mm, IPC Medium Density)
pins: 1, 2

## 11K_0402
designator R?, comment value 11K  Tol: 1%  Text1: 0402  (hidden comment: 11K_R0402_1%)
Resistor Chip SMD; Manufacturer: Various; Part Number: 11K 0402 1%; Watt: 63mW; Package: RESC0402X40N; EDM-PN: *; Text2: *; Reutech PN: *; SAAB PN: *; DCE Part No: *
footprint RESC0402X40N (Chip Resistor, 0402, 2-Leads, Body 1.1x0.5mm, IPC Medium Density)
pins: 1, 2

## 11K_0603
designator R?, comment value 11K  Tol: 1%  Text1: 0603  (hidden comment: 11K_R0603_1%)
Resistor Chip SMD; Manufacturer: Various; Part Number: 11K 0603 1%; Watt: 100mW; EDM-PN: RES599; Package: RESC0603X60N; Text2: *; Reutech PN: 5905-93-1102; SAAB PN: *; DCE Part No: *
footprint RESC0603X60N (Chip Resistor, 0603, 2-Leads, Body 1.6x0.8mm, IPC Medium Density)
pins: 1, 2

## 11K_0805
designator R?, comment value 11K  Tol: 1%  Text1: 0805  (hidden comment: 11K_R0805_1%)
Resistor Chip SMD; Manufacturer: Various; Part Number: 11K 0805 1%; Watt: 125mW; Package: RESC0805X65N; EDM-PN: *; Text2: *; Reutech PN: *; SAAB PN: *; DCE Part No: *
footprint RESC0805X65N (Chip Resistor, 0805, 2-Leads, Body 2.0x1.3mm, IPC Medium Density)
pins: 1, 2

## 11K_1206
designator R?, comment value 11K  Tol: 1%  Text1: 1206  (hidden comment: 11K_R1206_1%)
Resistor Chip SMD; Manufacturer: Various; Part Number: 11K 1206 1%; Watt: 250mW; Package: RESC1206X71N; EDM-PN: *; Text2: *; Reutech PN: *; SAAB PN: *; DCE Part No: *
footprint RESC1206X71N (Chip Resistor, 1206, 2-Leads, Body 3.2x1.6mm, IPC Medium Density)
pins: 1, 2

## 12K1_0201
designator R?, comment value 12K1  Tol: 1%  Text1: 0201  (hidden comment: 12K1_R0201_1%)
Resistor Chip SMD; Manufacturer: Various; Part Number: 12K1 0201 1%; Watt: 31mW; Package: RESC0201X33N; EDM-PN: *; Text2: *; Reutech PN: *; SAAB PN: *; DCE Part No: *
footprint RESC0201X33N (Chip Resistor, 0201, 2-Leads, Body 0.6x0.3mm, IPC Medium Density)
pins: 1, 2

## 12K1_0402
designator R?, comment value 12K1  Tol: 1%  Text1: 0402  (hidden comment: 12K1_R0402_1%)
Resistor Chip SMD; Manufacturer: Various; Part Number: 12K1 0402 1%; Watt: 63mW; Package: RESC0402X40N; EDM-PN: *; Text2: *; Reutech PN: *; SAAB PN: *; DCE Part No: *
footprint RESC0402X40N (Chip Resistor, 0402, 2-Leads, Body 1.1x0.5mm, IPC Medium Density)
pins: 1, 2

## 12K1_0603
designator R?, comment value 12K1  Tol: 1%  Text1: 0603  (hidden comment: 12K1_R0603_1%)
Resistor Chip SMD; Manufacturer: Various; Part Number: 12K1 0603 1%; Watt: 100mW; EDM-PN: RES1397; Package: RESC0603X60N; Text2: *; Reutech PN: *; SAAB PN: *; DCE Part No: *
footprint RESC0603X60N (Chip Resistor, 0603, 2-Leads, Body 1.6x0.8mm, IPC Medium Density)
pins: 1, 2

## 12K1_0805
designator R?, comment value 12K1  Tol: 1%  Text1: 0805  (hidden comment: 12K1_R0805_1%)
Resistor Chip SMD; Manufacturer: Various; Part Number: 12K1 0805 1%; Watt: 125mW; Package: RESC0805X65N; EDM-PN: *; Text2: *; Reutech PN: *; SAAB PN: *; DCE Part No: *
footprint RESC0805X65N (Chip Resistor, 0805, 2-Leads, Body 2.0x1.3mm, IPC Medium Density)
pins: 1, 2

## 12K1_1206
designator R?, comment value 12K1  Tol: 1%  Text1: 1206  (hidden comment: 12K1_R1206_1%)
Resistor Chip SMD; Manufacturer: Various; Part Number: 12K1 1206 1%; Watt: 250mW; Package: RESC1206X71N; EDM-PN: *; Text2: *; Reutech PN: *; SAAB PN: *; DCE Part No: *
footprint RESC1206X71N (Chip Resistor, 1206, 2-Leads, Body 3.2x1.6mm, IPC Medium Density)
pins: 1, 2

## 12K3_0402
designator R?, comment value 12K3  Tol: 1%  Text1: 0402  (hidden comment: 12K3_R0402_1%)
Resistor Chip SMD; Manufacturer: Various; Part Number: 12K3 0402 1%; Watt: 63mW; Package: RESC0402X40N; EDM-PN: *; Text2: *; Reutech PN: *; SAAB PN: *; DCE Part No: *
footprint RESC0402X40N (Chip Resistor, 0402, 2-Leads, Body 1.1x0.5mm, IPC Medium Density)
pins: 1, 2

## 12K3_0603
designator R?, comment value 12K3  Tol: 1%  Text1: 0603  (hidden comment: 12K3_R0603_1%)
Resistor Chip SMD; Manufacturer: Various; Part Number: 12K3 0603 1%; Watt: 100mW; Package: RESC0603X60N; EDM-PN: *; Text2: *; Reutech PN: *; SAAB PN: *; DCE Part No: *
footprint RESC0603X60N (Chip Resistor, 0603, 2-Leads, Body 1.6x0.8mm, IPC Medium Density)
pins: 1, 2

## 12K3_0805
designator R?, comment value 12K3  Tol: 1%  Text1: 0805  (hidden comment: 12K3_R0805_1%)
Resistor Chip SMD; Manufacturer: Various; Part Number: 12K3 0805 1%; Watt: 125mW; Package: RESC0805X65N; EDM-PN: *; Text2: *; Reutech PN: *; SAAB PN: *; DCE Part No: *
footprint RESC0805X65N (Chip Resistor, 0805, 2-Leads, Body 2.0x1.3mm, IPC Medium Density)
pins: 1, 2

## 12K4_0402
designator R?, comment value 12K4  Tol: 1%  Text1: 0402  (hidden comment: 12K4_R0402_1%)
Resistor Chip SMD; Manufacturer: Various; Part Number: 12K4 0402 1%; Watt: 63mW; Package: RESC0402X40N; EDM-PN: *; Text2: *; Reutech PN: *; SAAB PN: *; DCE Part No: *
footprint RESC0402X40N (Chip Resistor, 0402, 2-Leads, Body 1.1x0.5mm, IPC Medium Density)
pins: 1, 2

## 12K4_0402-5%
designator R?, comment value 12K4  Tol: 5%  Text1: 0402  (hidden comment: 12K4_R0402_5%)
Resistor Chip SMD; Manufacturer: Various; Part Number: 12K4 0402 5%; Watt: 63mW; Package: RESC0402X40N; EDM-PN: *; Text2: *; Reutech PN: *; SAAB PN: *; DCE Part No: *
footprint RESC0402X40N (Chip Resistor, 0402, 2-Leads, Body 1.1x0.5mm, IPC Medium Density)
pins: 1, 2

## 12K4_0603
designator R?, comment value 12K4  Tol: 1%  Text1: 0603  (hidden comment: 12K4_R0603_1%)
Resistor Chip SMD; Manufacturer: Various; Part Number: 12K4 0603 1%; Watt: 100mW; EDM-PN: RES1105; Package: RESC0603X60N; Text2: *; Reutech PN: *; SAAB PN: *; DCE Part No: *
footprint RESC0603X60N (Chip Resistor, 0603, 2-Leads, Body 1.6x0.8mm, IPC Medium Density)
pins: 1, 2

## 12K4_0805
designator R?, comment value 12K4  Tol: 1%  Text1: 0805  (hidden comment: 12K4_R0805_1%)
Resistor Chip SMD; Manufacturer: Various; Part Number: 12K4 0805 1%; Watt: 125mW; Package: RESC0805X65N; EDM-PN: *; Text2: *; Reutech PN: *; SAAB PN: *; DCE Part No: *
footprint RESC0805X65N (Chip Resistor, 0805, 2-Leads, Body 2.0x1.3mm, IPC Medium Density)
pins: 1, 2

## 12K4_1206
designator R?, comment value 12K4  Tol: 1%  Text1: 1206  (hidden comment: 12K4_R1206_1%)
Resistor Chip SMD; Manufacturer: Various; Part Number: 12K4 1206 1%; Watt: 250mW; Package: RESC1206X71N; EDM-PN: *; Text2: *; Reutech PN: *; SAAB PN: *; DCE Part No: *
footprint RESC1206X71N (Chip Resistor, 1206, 2-Leads, Body 3.2x1.6mm, IPC Medium Density)
pins: 1, 2

## 12K7_0402
designator R?, comment value 12K7  Tol: 1%  Text1: 0402  (hidden comment: 12K7_R0402_1%)
Resistor Chip SMD; Manufacturer: Various; Part Number: 12K7 0402 1%; Watt: 63mW; Package: RESC0402X40N; EDM-PN: *; Text2: *; Reutech PN: *; SAAB PN: *; DCE Part No: *
footprint RESC0402X40N (Chip Resistor, 0402, 2-Leads, Body 1.1x0.5mm, IPC Medium Density)
pins: 1, 2

## 12K7_0603
designator R?, comment value 12K7  Tol: 1%  Text1: 0603  (hidden comment: 12K7_R0603_1%)
Resistor Chip SMD; Manufacturer: Various; Part Number: 12K7 0603 1%; Watt: 100mW; Package: RESC0603X60N; EDM-PN: *; Text2: *; Reutech PN: *; SAAB PN: *; DCE Part No: *
footprint RESC0603X60N (Chip Resistor, 0603, 2-Leads, Body 1.6x0.8mm, IPC Medium Density)
pins: 1, 2

## 12K7_0805
designator R?, comment value 12K7  Tol: 1%  Text1: 0805  (hidden comment: 12K7_R0805_1%)
Resistor Chip SMD; Manufacturer: Various; Part Number: 12K7 0805 1%; Watt: 125mW; Package: RESC0805X65N; EDM-PN: *; Text2: *; Reutech PN: *; SAAB PN: *; DCE Part No: *
footprint RESC0805X65N (Chip Resistor, 0805, 2-Leads, Body 2.0x1.3mm, IPC Medium Density)
pins: 1, 2

## 12K7_1206
designator R?, comment value 12K7  Tol: 1%  Text1: 1206  (hidden comment: 12K7_R1206_1%)
Resistor Chip SMD; Manufacturer: Various; Part Number: 12K7 1206 1%; Watt: 250mW; Package: RESC1206X71N; EDM-PN: *; Text2: *; Reutech PN: *; SAAB PN: *; DCE Part No: *
footprint RESC1206X71N (Chip Resistor, 1206, 2-Leads, Body 3.2x1.6mm, IPC Medium Density)
pins: 1, 2

## 12K_0201
designator R?, comment value 12K  Tol: 1%  Text1: 0201  (hidden comment: 12K_R0201_1%)
Resistor Chip SMD; Manufacturer: Various; Part Number: 12K 0201 1%; Watt: 31mW; Package: RESC0201X33N; EDM-PN: *; Text2: *; Reutech PN: *; SAAB PN: *; DCE Part No: *
footprint RESC0201X33N (Chip Resistor, 0201, 2-Leads, Body 0.6x0.3mm, IPC Medium Density)
pins: 1, 2

## 12K_0402
designator R?, comment value 12K  Tol: 1%  Text1: 0402  (hidden comment: 12K_R0402_1%)
Resistor Chip SMD; Manufacturer: Various; Part Number: 12K 0402 1%; Watt: 63mW; EDM-PN: RES695; Package: RESC0402X40N; Text2: *; Reutech PN: *; SAAB PN: *; DCE Part No: *
footprint RESC0402X40N (Chip Resistor, 0402, 2-Leads, Body 1.1x0.5mm, IPC Medium Density)
pins: 1, 2

## 12K_0603
designator R?, comment value 12K  Tol: 1%  Text1: 0603  (hidden comment: 12K_R0603_1%)
Resistor Chip SMD; Manufacturer: Various; Part Number: 12K 0603 1%; Watt: 100mW; Package: RESC0603X60N; EDM-PN: *; Text2: *; Reutech PN: 5905-93-1202; SAAB PN: *; DCE Part No: *
footprint RESC0603X60N (Chip Resistor, 0603, 2-Leads, Body 1.6x0.8mm, IPC Medium Density)
pins: 1, 2

## 12K_0805
designator R?, comment value 12K  Tol: 1%  Text1: 0805  (hidden comment: 12K_R0805_1%)
Resistor Chip SMD; Manufacturer: Various; Part Number: 12K 0805 1%; Watt: 125mW; Package: RESC0805X65N; EDM-PN: *; Text2: *; Reutech PN: *; SAAB PN: *; DCE Part No: *
footprint RESC0805X65N (Chip Resistor, 0805, 2-Leads, Body 2.0x1.3mm, IPC Medium Density)
pins: 1, 2

## 12K_1206
designator R?, comment value 12K  Tol: 1%  Text1: 1206  (hidden comment: 12K_R1206_1%)
Resistor Chip SMD; Manufacturer: Various; Part Number: 12K 1206 1%; Watt: 250mW; Package: RESC1206X71N; EDM-PN: *; Text2: *; Reutech PN: *; SAAB PN: *; DCE Part No: *
footprint RESC1206X71N (Chip Resistor, 1206, 2-Leads, Body 3.2x1.6mm, IPC Medium Density)
pins: 1, 2

## 12R1_0201
designator R?, comment value 12R1  Tol: 1%  Text1: 0201  (hidden comment: 12R1_R0201_1%)
Resistor Chip SMD; Manufacturer: Various; Part Number: 12R1 0201 1%; Watt: 31mW; Package: RESC0201X33N; EDM-PN: *; Text2: *; Reutech PN: *; SAAB PN: *; DCE Part No: *
footprint RESC0201X33N (Chip Resistor, 0201, 2-Leads, Body 0.6x0.3mm, IPC Medium Density)
pins: 1, 2

## 12R1_0402
designator R?, comment value 12R1  Tol: 1%  Text1: 0402  (hidden comment: 12R1_R0402_1%)
Resistor Chip SMD; Manufacturer: Various; Part Number: 12R1 0402 1%; Watt: 63mW; Package: RESC0402X40N; EDM-PN: *; Text2: *; Reutech PN: *; SAAB PN: *; DCE Part No: *
footprint RESC0402X40N (Chip Resistor, 0402, 2-Leads, Body 1.1x0.5mm, IPC Medium Density)
pins: 1, 2

## 12R1_0603
designator R?, comment value 12R1  Tol: 1%  Text1: 0603  (hidden comment: 12R1_R0603_1%)
Resistor Chip SMD; Manufacturer: Various; Part Number: 12R1 0603 1%; Watt: 100mW; Package: RESC0603X60N; EDM-PN: *; Text2: *; Reutech PN: *; SAAB PN: *; DCE Part No: *
footprint RESC0603X60N (Chip Resistor, 0603, 2-Leads, Body 1.6x0.8mm, IPC Medium Density)
pins: 1, 2

## 12R1_0805
designator R?, comment value 12R1  Tol: 1%  Text1: 0805  (hidden comment: 12R1_R0805_1%)
Resistor Chip SMD; Manufacturer: Various; Part Number: 12R1 0805 1%; Watt: 125mW; Package: RESC0805X65N; EDM-PN: *; Text2: *; Reutech PN: *; SAAB PN: *; DCE Part No: *
footprint RESC0805X65N (Chip Resistor, 0805, 2-Leads, Body 2.0x1.3mm, IPC Medium Density)
pins: 1, 2

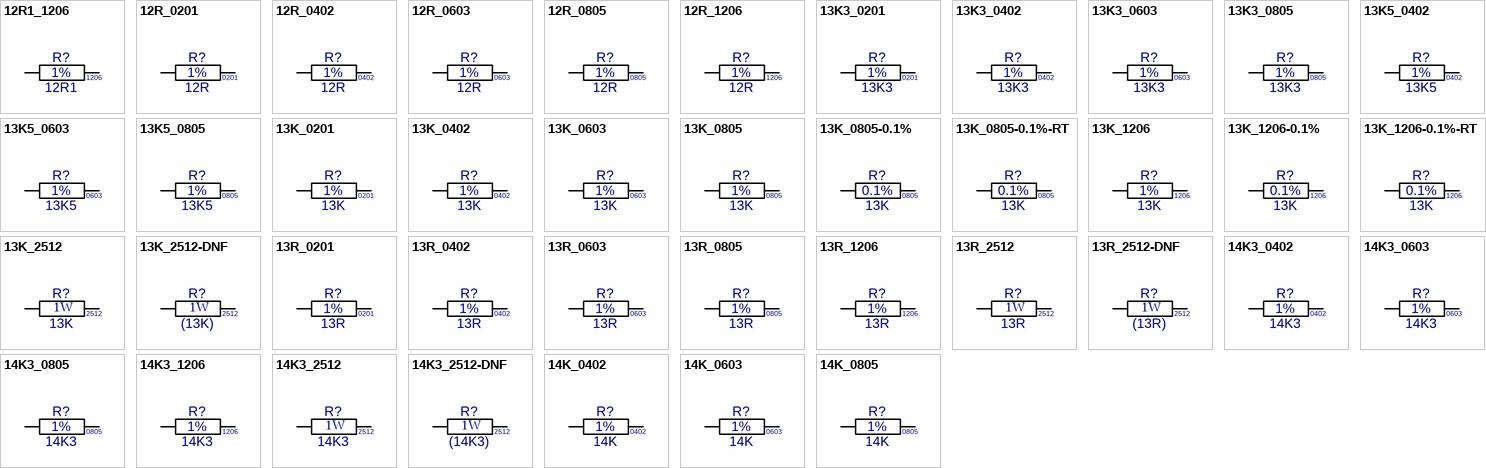
[diagram p23: symbols 12R1_1206 to 14K_0805]

## 12R1_1206
designator R?, comment value 12R1  Tol: 1%  Text1: 1206  (hidden comment: 12R1_R1206_1%)
Resistor Chip SMD; Manufacturer: Various; Part Number: 12R1 1206 1%; Watt: 250mW; Package: RESC1206X71N; EDM-PN: *; Text2: *; Reutech PN: *; SAAB PN: *; DCE Part No: *
footprint RESC1206X71N (Chip Resistor, 1206, 2-Leads, Body 3.2x1.6mm, IPC Medium Density)
pins: 1, 2

## 12R_0201
designator R?, comment value 12R  Tol: 1%  Text1: 0201  (hidden comment: 12R_R0201_1%)
Resistor Chip SMD; Manufacturer: Various; Part Number: 12R 0201 1%; Watt: 31mW; Package: RESC0201X33N; EDM-PN: *; Text2: *; Reutech PN: *; SAAB PN: *; DCE Part No: *
footprint RESC0201X33N (Chip Resistor, 0201, 2-Leads, Body 0.6x0.3mm, IPC Medium Density)
pins: 1, 2

## 12R_0402
designator R?, comment value 12R  Tol: 1%  Text1: 0402  (hidden comment: 12R_R0402_1%)
Resistor Chip SMD; Manufacturer: Various; Part Number: 12R 0402 1%; Watt: 63mW; Package: RESC0402X40N; EDM-PN: *; Text2: *; Reutech PN: *; SAAB PN: *; DCE Part No: *
footprint RESC0402X40N (Chip Resistor, 0402, 2-Leads, Body 1.1x0.5mm, IPC Medium Density)
pins: 1, 2

## 12R_0603
designator R?, comment value 12R  Tol: 1%  Text1: 0603  (hidden comment: 12R_R0603_1%)
Resistor Chip SMD; Manufacturer: Various; Part Number: 12R 0603 1%; Watt: 100mW; Package: RESC0603X60N; EDM-PN: *; Text2: *; Reutech PN: *; SAAB PN: *; DCE Part No: *
footprint RESC0603X60N (Chip Resistor, 0603, 2-Leads, Body 1.6x0.8mm, IPC Medium Density)
pins: 1, 2

## 12R_0805
designator R?, comment value 12R  Tol: 1%  Text1: 0805  (hidden comment: 12R_R0805_1%)
Resistor Chip SMD; Manufacturer: Various; Part Number: 12R 0805 1%; Watt: 125mW; Package: RESC0805X65N; EDM-PN: *; Text2: *; Reutech PN: *; SAAB PN: *; DCE Part No: *
footprint RESC0805X65N (Chip Resistor, 0805, 2-Leads, Body 2.0x1.3mm, IPC Medium Density)
pins: 1, 2

## 12R_1206
designator R?, comment value 12R  Tol: 1%  Text1: 1206  (hidden comment: 12R_R1206_1%)
Resistor Chip SMD; Manufacturer: Various; Part Number: 12R 1206 1%; Watt: 250mW; Package: RESC1206X71N; EDM-PN: *; Text2: *; Reutech PN: *; SAAB PN: *; DCE Part No: *
footprint RESC1206X71N (Chip Resistor, 1206, 2-Leads, Body 3.2x1.6mm, IPC Medium Density)
pins: 1, 2

## 13K3_0201
designator R?, comment value 13K3  Tol: 1%  Text1: 0201  (hidden comment: 13K3_R0201_1%)
Resistor Chip SMD; Manufacturer: Various; Part Number: 13K3 0201 1%; Watt: 31mW; Package: RESC0201X33N; EDM-PN: *; Text2: *; Reutech PN: *; SAAB PN: *; DCE Part No: *
footprint RESC0201X33N (Chip Resistor, 0201, 2-Leads, Body 0.6x0.3mm, IPC Medium Density)
pins: 1, 2

## 13K3_0402
designator R?, comment value 13K3  Tol: 1%  Text1: 0402  (hidden comment: 13K3_R0402_1%)
Resistor Chip SMD; Manufacturer: Various; Part Number: 13K3 0402 1%; DCE Part No: 7525; Watt: 63mW; Package: RESC0402X40N; EDM-PN: *; Text2: *; Reutech PN: *; SAAB PN: *
footprint RESC0402X40N (Chip Resistor, 0402, 2-Leads, Body 1.1x0.5mm, IPC Medium Density)
pins: 1, 2

## 13K3_0603
designator R?, comment value 13K3  Tol: 1%  Text1: 0603  (hidden comment: 13K3_R0603_1%)
Resistor Chip SMD; Manufacturer: Various; Part Number: 13K3 0603 1%; Watt: 100mW; Package: RESC0603X60N; EDM-PN: *; Text2: *; Reutech PN: *; SAAB PN: *; DCE Part No: *
footprint RESC0603X60N (Chip Resistor, 0603, 2-Leads, Body 1.6x0.8mm, IPC Medium Density)
pins: 1, 2

## 13K3_0805
designator R?, comment value 13K3  Tol: 1%  Text1: 0805  (hidden comment: 13K3_R0805_1%)
Resistor Chip SMD; Manufacturer: Various; Part Number: 13K3 0805 1%; Watt: 125mW; Package: RESC0805X65N; EDM-PN: *; Text2: *; Reutech PN: *; SAAB PN: *; DCE Part No: *
footprint RESC0805X65N (Chip Resistor, 0805, 2-Leads, Body 2.0x1.3mm, IPC Medium Density)
pins: 1, 2

## 13K5_0402
designator R?, comment value 13K5  Tol: 1%  Text1: 0402  (hidden comment: 13K5_R0402_1%)
Resistor Chip SMD; Manufacturer: Various; Part Number: 13K5 0402 1%; Watt: 63mW; EDM-PN: RES1577; Package: RESC0402X40N; Text2: *; Reutech PN: *; SAAB PN: *; DCE Part No: *
footprint RESC0402X40N (Chip Resistor, 0402, 2-Leads, Body 1.1x0.5mm, IPC Medium Density)
pins: 1, 2

## 13K5_0603
designator R?, comment value 13K5  Tol: 1%  Text1: 0603  (hidden comment: 13K5_R0603_1%)
Resistor Chip SMD; Manufacturer: Various; Part Number: 13K5 0603 1%; Watt: 100mW; Package: RESC0603X60N; EDM-PN: *; Text2: *; Reutech PN: *; SAAB PN: *; DCE Part No: *
footprint RESC0603X60N (Chip Resistor, 0603, 2-Leads, Body 1.6x0.8mm, IPC Medium Density)
pins: 1, 2

## 13K5_0805
designator R?, comment value 13K5  Tol: 1%  Text1: 0805  (hidden comment: 13K5_R0805_1%)
Resistor Chip SMD; Manufacturer: Various; Part Number: 13K5 0805 1%; Watt: 125mW; Package: RESC0805X65N; EDM-PN: *; Text2: *; Reutech PN: *; SAAB PN: *; DCE Part No: *
footprint RESC0805X65N (Chip Resistor, 0805, 2-Leads, Body 2.0x1.3mm, IPC Medium Density)
pins: 1, 2

## 13K_0201
designator R?, comment value 13K  Tol: 1%  Text1: 0201  (hidden comment: 13K_R0201_1%)
Resistor Chip SMD; Manufacturer: Various; Part Number: 13K 0201 1%; Watt: 31mW; Package: RESC0201X33N; EDM-PN: *; Text2: *; Reutech PN: *; SAAB PN: *; DCE Part No: *
footprint RESC0201X33N (Chip Resistor, 0201, 2-Leads, Body 0.6x0.3mm, IPC Medium Density)
pins: 1, 2

## 13K_0402
designator R?, comment value 13K  Tol: 1%  Text1: 0402  (hidden comment: 13K_R0402_1%)
Resistor Chip SMD; Manufacturer: Various; Part Number: 13K 0402 1%; Watt: 63mW; Package: RESC0402X40N; EDM-PN: *; Text2: *; Reutech PN: *; SAAB PN: *; DCE Part No: *
footprint RESC0402X40N (Chip Resistor, 0402, 2-Leads, Body 1.1x0.5mm, IPC Medium Density)
pins: 1, 2

## 13K_0603
designator R?, comment value 13K  Tol: 1%  Text1: 0603  (hidden comment: 13K_R0603_1%)
Resistor Chip SMD; Manufacturer: Various; Part Number: 13K 0603 1%; Watt: 100mW; Package: RESC0603X60N; EDM-PN: *; Text2: *; Reutech PN: *; SAAB PN: *; DCE Part No: *
footprint RESC0603X60N (Chip Resistor, 0603, 2-Leads, Body 1.6x0.8mm, IPC Medium Density)
pins: 1, 2

## 13K_0805
designator R?, comment value 13K  Tol: 1%  Text1: 0805  (hidden comment: 13K_R0805_1%)
Resistor Chip SMD; Manufacturer: Various; Part Number: 13K 0805 1%; Watt: 125mW; Package: RESC0805X65N; EDM-PN: *; Text2: *; Reutech PN: *; SAAB PN: *; DCE Part No: *
footprint RESC0805X65N (Chip Resistor, 0805, 2-Leads, Body 2.0x1.3mm, IPC Medium Density)
pins: 1, 2

## 13K_0805-0.1%
designator R?, comment value 13K  Tol: 0.1%  Text1: 0805  (hidden comment: 13K_R0805_0.1%)
Resistor Chip SMD; Manufacturer: Various; Part Number: 13K 0805 0.1%; Watt: 125mW; Package: RESC0805X65N; EDM-PN: *; Text2: *; Reutech PN: *; SAAB PN: *; DCE Part No: *
footprint RESC0805X65N (Chip Resistor, 0805, 2-Leads, Body 2.0x1.3mm, IPC Medium Density)
pins: 1, 2

## 13K_0805-0.1%-RT
designator R?, comment value 13K  Tol: 0.1%  Text1: 0805  (hidden comment: 13K_R0805_0.1%-RT)
Resistor Chip SMD; Manufacturer: Yageo; Part Number: RT0805BRD0713KL; Watt: 125mW; Package: RESC0805X65N; EDM-PN: *; Text2: *; Reutech PN: *; SAAB PN: *; DCE Part No: *
footprint RESC0805X65N (Chip Resistor, 0805, 2-Leads, Body 2.0x1.3mm, IPC Medium Density)
pins: 1, 2

## 13K_1206
designator R?, comment value 13K  Tol: 1%  Text1: 1206  (hidden comment: 13K_R1206_1%)
Resistor Chip SMD; Manufacturer: Various; Part Number: 13K 1206 1%; Watt: 250mW; Package: RESC1206X71N; EDM-PN: *; Text2: *; Reutech PN: *; SAAB PN: *; DCE Part No: *
footprint RESC1206X71N (Chip Resistor, 1206, 2-Leads, Body 3.2x1.6mm, IPC Medium Density)
pins: 1, 2

## 13K_1206-0.1%
designator R?, comment value 13K  Tol: 0.1%  Text1: 1206  (hidden comment: 13K_R1206_0.1%)
Resistor Chip SMD; Manufacturer: Various; Part Number: 13K 1206 0.1%; Watt: 250mW; Package: RESC1206X71N; EDM-PN: *; Text2: *; Reutech PN: *; SAAB PN: *; DCE Part No: *
footprint RESC1206X71N (Chip Resistor, 1206, 2-Leads, Body 3.2x1.6mm, IPC Medium Density)
pins: 1, 2

## 13K_1206-0.1%-RT
designator R?, comment value 13K  Tol: 0.1%  Text1: 1206  (hidden comment: 13K_R1206_0.1%-RT)
Resistor Chip SMD; Manufacturer: Yageo; Part Number: RT1206BRD0713KL; Watt: 250mW; Package: RESC1206X71N; EDM-PN: *; Text2: *; Reutech PN: *; SAAB PN: *; DCE Part No: *
footprint RESC1206X71N (Chip Resistor, 1206, 2-Leads, Body 3.2x1.6mm, IPC Medium Density)
pins: 1, 2